# Altium schematic symbol library Capacitor - Aluminium.SchLib: 294 symbols (part 2 of 5)
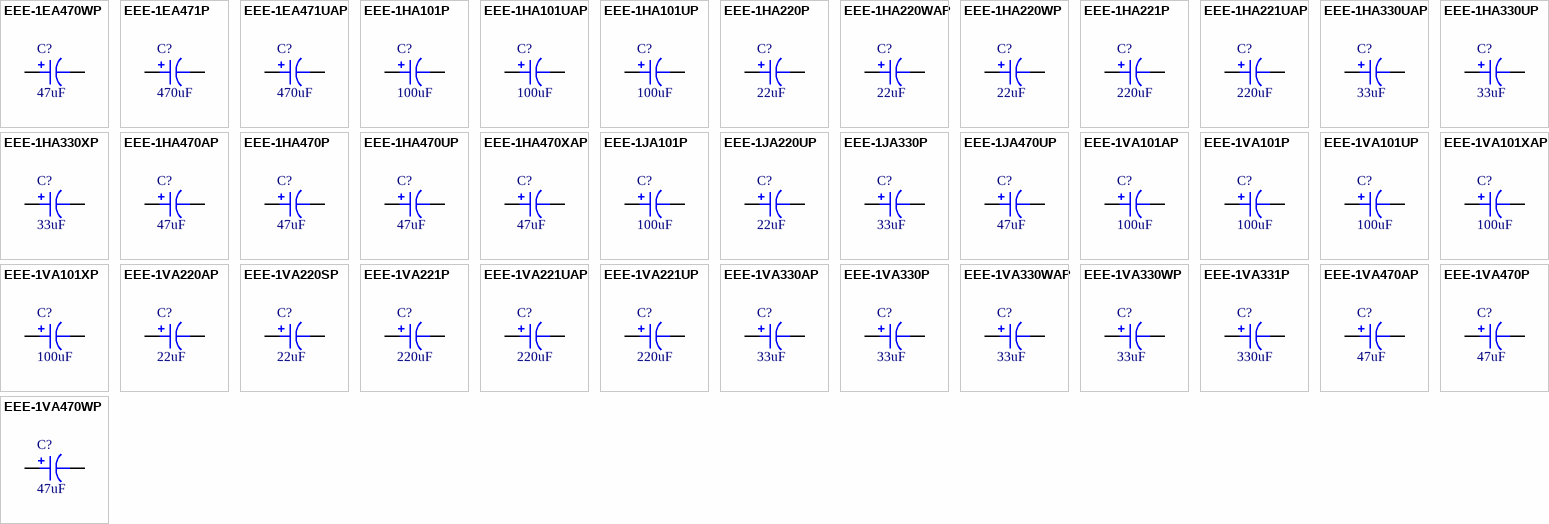
[diagram p8: symbols EEE-1EA470WP to EEE-1VA470WP]

## EEE-1VA101XAP
designator C?, comment 100uF
CAP ALUM 100UF 20% 35V SMD; Part Number: EEE-1VA101XAP; Manufacturer: Panasonic Electronic Components; TemperatureRange: -40C ~ 85C; Type: High Temperature Reflow; Ripple Current: 132mA; Lifetime @ Temp: 2000 Hrs @ 85C; Value: 100uF; PartId: 7256; Supplier 1: Digi-Key; Supplier Part Number 1: PCE4633TR-ND; ComponentLink1Description: Datasheet; ComponentLink1URL: http://media.digikey.com/pdf/Data%20Sheets/Panasonic%20Electronic%20Components/S_Series_Type_V.pdf; ComponentLink2Description: Digi-Key listing; ComponentLink2URL: http://digikey.com/product-detail/en/EEE-1VA101XAP/PCE4633TR-ND/1717799; Tolerance: 20%; Voltage: 35V; Price: 0.1968; Device Package: Radial, Can - SMD; Impedance: -
footprint CAP ALUM 6.6MM
pins: 1, 2

## EEE-1VA101XP
designator C?, comment 100uF
CAP ALUM 100UF 20% 35V SMD; Part Number: EEE-1VA101XP; Manufacturer: Panasonic Electronic Components; TemperatureRange: -40C ~ 85C; Type: Automotive; Ripple Current: 132mA; Lifetime @ Temp: 2000 Hrs @ 85C; Value: 100uF; PartId: 7247; Supplier 1: Digi-Key; Supplier Part Number 1: PCE3951TR-ND; ComponentLink1Description: Datasheet; ComponentLink1URL: http://media.digikey.com/pdf/Data%20Sheets/Panasonic%20Electronic%20Components/S_Series_Type_V.pdf; ComponentLink2Description: Digi-Key listing; ComponentLink2URL: http://digikey.com/product-detail/en/EEE-1VA101XP/PCE3951TR-ND/766117; Tolerance: 20%; Voltage: 35V; Price: 0.1724; Device Package: Radial, Can - SMD; Impedance: -
footprint CAP ALUM 6.6MM
pins: 1, 2

## EEE-1VA220AP
designator C?, comment 22uF
CAP ALUM 22UF 20% 35V SMD; Part Number: EEE-1VA220AP; Manufacturer: Panasonic Electronic Components; TemperatureRange: -40C ~ 85C; Type: High Temperature Reflow; Ripple Current: 60mA; Lifetime @ Temp: 2000 Hrs @ 85C; Value: 22uF; PartId: 7218; Supplier 1: Digi-Key; Supplier Part Number 1: PCE4634TR-ND; ComponentLink1Description: Datasheet; ComponentLink1URL: http://media.digikey.com/pdf/Data%20Sheets/Panasonic%20Electronic%20Components/S_Series_Type_V.pdf; ComponentLink2Description: Digi-Key listing; ComponentLink2URL: http://digikey.com/product-detail/en/EEE-1VA220AP/PCE4634TR-ND/1717800; Tolerance: 20%; Voltage: 35V; Price: 0.1368; Device Package: Radial, Can - SMD; Impedance: -
footprint CAP ALUM 6.6MM
pins: 1, 2

## EEE-1VA220SP
designator C?, comment 22uF
CAP ALUM 22UF 20% 35V SMD; Part Number: EEE-1VA220SP; Manufacturer: Panasonic Electronic Components; TemperatureRange: -40C ~ 85C; Type: Automotive; Ripple Current: 60mA; Lifetime @ Temp: 2000 Hrs @ 85C; Value: 22uF; PartId: 7211; Supplier 1: Digi-Key; Supplier Part Number 1: PCE3952TR-ND; ComponentLink1Description: Datasheet; ComponentLink1URL: http://media.digikey.com/pdf/Data%20Sheets/Panasonic%20Electronic%20Components/S_Series_Type_V.pdf; ComponentLink2Description: Digi-Key listing; ComponentLink2URL: http://digikey.com/product-detail/en/EEE-1VA220SP/PCE3952TR-ND/761837; Tolerance: 20%; Voltage: 35V; Price: 0.1202; Device Package: Radial, Can - SMD; Impedance: -
footprint CAP ALUM 6.6MM
pins: 1, 2

## EEE-1VA221P
designator C?, comment 220uF
CAP ALUM 220UF 20% 35V SMD; Part Number: EEE-1VA221P; Manufacturer: Panasonic Electronic Components; TemperatureRange: -40C ~ 85C; Type: Automotive; Ripple Current: 310mA; Lifetime @ Temp: 2000 Hrs @ 85C; Value: 220uF; PartId: 7384; Supplier 1: Digi-Key; Supplier Part Number 1: PCE3954TR-ND; ComponentLink1Description: Datasheet; ComponentLink1URL: http://media.digikey.com/pdf/Data%20Sheets/Panasonic%20Electronic%20Components/S_Series_Type_V.pdf; ComponentLink2Description: Digi-Key listing; ComponentLink2URL: http://digikey.com/product-detail/en/EEE-1VA221P/PCE3954TR-ND/766119; Tolerance: 20%; Voltage: 35V; Price: 0.2631; Device Package: Radial, Can - SMD; Impedance: -
footprint CAP ALUM 10.3MM
pins: 1, 2

## EEE-1VA221UAP
designator C?, comment 220uF
CAP ALUM 220UF 20% 35V SMD; Part Number: EEE-1VA221UAP; Manufacturer: Panasonic Electronic Components; TemperatureRange: -40C ~ 85C; Type: High Temperature Reflow; Ripple Current: 200mA; Lifetime @ Temp: 1000 Hrs @ 85C; Value: 220uF; PartId: 7354; Supplier 1: Digi-Key; Supplier Part Number 1: PCE4637TR-ND; ComponentLink1Description: Datasheet; ComponentLink1URL: http://media.digikey.com/pdf/Data%20Sheets/Panasonic%20Electronic%20Components/S_Series_Type_V.pdf; ComponentLink2Description: Digi-Key listing; ComponentLink2URL: http://digikey.com/product-detail/en/EEE-1VA221UAP/PCE4637TR-ND/1717803; Tolerance: 20%; Voltage: 35V; Price: 0.3313; Device Package: Radial, Can - SMD; Impedance: -
footprint CAP ALUM 8.3MM
pins: 1, 2

## EEE-1VA221UP
designator C?, comment 220uF
CAP ALUM 220UF 20% 35V SMD; Part Number: EEE-1VA221UP; Manufacturer: Panasonic Electronic Components; TemperatureRange: -40C ~ 85C; Type: Automotive; Ripple Current: 200mA; Lifetime @ Temp: 2000 Hrs @ 85C; Value: 220uF; PartId: 7343; Supplier 1: Digi-Key; Supplier Part Number 1: PCE3955TR-ND; ComponentLink1Description: Datasheet; ComponentLink1URL: http://media.digikey.com/pdf/Data%20Sheets/Panasonic%20Electronic%20Components/S_Series_Type_V.pdf; ComponentLink2Description: Digi-Key listing; ComponentLink2URL: http://digikey.com/product-detail/en/EEE-1VA221UP/PCE3955TR-ND/766120; Tolerance: 20%; Voltage: 35V; Price: 0.2912; Device Package: Radial, Can - SMD; Impedance: -
footprint CAP ALUM 8.3MM
pins: 1, 2

## EEE-1VA330AP
designator C?, comment 33uF
CAP ALUM 33UF 20% 35V SMD; Part Number: EEE-1VA330AP; Manufacturer: Panasonic Electronic Components; TemperatureRange: -40C ~ 85C; Type: High Temperature Reflow; Ripple Current: 130mA; Lifetime @ Temp: 2000 Hrs @ 85C; Value: 33uF; PartId: 7321; Supplier 1: Digi-Key; Supplier Part Number 1: PCE4638TR-ND; ComponentLink1Description: Datasheet; ComponentLink1URL: http://media.digikey.com/pdf/Data%20Sheets/Panasonic%20Electronic%20Components/S_Series_Type_V.pdf; ComponentLink2Description: Digi-Key listing; ComponentLink2URL: http://digikey.com/product-detail/en/EEE-1VA330AP/PCE4638TR-ND/1717804; Tolerance: 20%; Voltage: 35V; Price: 0.2002; Device Package: Radial, Can - SMD; Impedance: -
footprint CAP ALUM 8.3MM
pins: 1, 2

## EEE-1VA330P
designator C?, comment 33uF
CAP ALUM 33UF 20% 35V SMD; Part Number: EEE-1VA330P; Manufacturer: Panasonic Electronic Components; TemperatureRange: -40C ~ 85C; Type: Automotive; Ripple Current: 130mA; Lifetime @ Temp: 2000 Hrs @ 85C; Value: 33uF; PartId: 7315; Supplier 1: Digi-Key; Supplier Part Number 1: PCE3956TR-ND; ComponentLink1Description: Datasheet; ComponentLink1URL: http://media.digikey.com/pdf/Data%20Sheets/Panasonic%20Electronic%20Components/S_Series_Type_V.pdf; ComponentLink2Description: Digi-Key listing; ComponentLink2URL: http://digikey.com/product-detail/en/EEE-1VA330P/PCE3956TR-ND/766121; Tolerance: 20%; Voltage: 35V; Price: 0.1761; Device Package: Radial, Can - SMD; Impedance: -
footprint CAP ALUM 8.3MM
pins: 1, 2

## EEE-1VA330WAP
designator C?, comment 33uF
CAP ALUM 33UF 20% 35V SMD; Part Number: EEE-1VA330WAP; Manufacturer: Panasonic Electronic Components; TemperatureRange: -40C ~ 85C; Type: High Temperature Reflow; Ripple Current: 60mA; Lifetime @ Temp: 1000 Hrs @ 85C; Value: 33uF; PartId: 7234; Supplier 1: Digi-Key; Supplier Part Number 1: PCE4639TR-ND; ComponentLink1Description: Datasheet; ComponentLink1URL: http://media.digikey.com/pdf/Data%20Sheets/Panasonic%20Electronic%20Components/S_Series_Type_V.pdf; ComponentLink2Description: Digi-Key listing; ComponentLink2URL: http://digikey.com/product-detail/en/EEE-1VA330WAP/PCE4639TR-ND/1717805; Tolerance: 20%; Voltage: 35V; Price: 0.1613; Device Package: Radial, Can - SMD; Impedance: -
footprint CAP ALUM 6.6MM
pins: 1, 2

## EEE-1VA330WP
designator C?, comment 33uF
CAP ALUM 33UF 20% 35V SMD; Part Number: EEE-1VA330WP; Manufacturer: Panasonic Electronic Components; TemperatureRange: -40C ~ 85C; Type: Automotive; Ripple Current: 60mA; Lifetime @ Temp: 1000 Hrs @ 85C; Value: 33uF; PartId: 7224; Supplier 1: Digi-Key; Supplier Part Number 1: PCE3958TR-ND; ComponentLink1Description: Datasheet; ComponentLink1URL: http://media.digikey.com/pdf/Data%20Sheets/Panasonic%20Electronic%20Components/S_Series_Type_V.pdf; ComponentLink2Description: Digi-Key listing; ComponentLink2URL: http://digikey.com/product-detail/en/EEE-1VA330WP/PCE3958TR-ND/766123; Tolerance: 20%; Voltage: 35V; Price: 0.1423; Device Package: Radial, Can - SMD; Impedance: -
footprint CAP ALUM 6.6MM
pins: 1, 2

## EEE-1VA331P
designator C?, comment 330uF
CAP ALUM 330UF 20% 35V SMD; Part Number: EEE-1VA331P; Manufacturer: Panasonic Electronic Components; TemperatureRange: -40C ~ 85C; Type: Automotive; Ripple Current: 350mA; Lifetime @ Temp: 2000 Hrs @ 85C; Value: 330uF; PartId: 7418; Supplier 1: Digi-Key; Supplier Part Number 1: PCE3959TR-ND; ComponentLink1Description: Datasheet; ComponentLink1URL: http://media.digikey.com/pdf/Data%20Sheets/Panasonic%20Electronic%20Components/S_Series_Type_V.pdf; ComponentLink2Description: Digi-Key listing; ComponentLink2URL: http://digikey.com/product-detail/en/EEE-1VA331P/PCE3959TR-ND/766124; Tolerance: 20%; Voltage: 35V; Price: 0.3451; Device Package: Radial, Can - SMD; Impedance: -
footprint CAP ALUM 10.3MM
pins: 1, 2

## EEE-1VA470AP
designator C?, comment 47uF
CAP ALUM 47UF 20% 35V SMD; Part Number: EEE-1VA470AP; Manufacturer: Panasonic Electronic Components; TemperatureRange: -40C ~ 85C; Type: High Temperature Reflow; Ripple Current: 165mA; Lifetime @ Temp: 2000 Hrs @ 85C; Value: 47uF; PartId: 7276; Supplier 1: Digi-Key; Supplier Part Number 1: PCE4641TR-ND; ComponentLink1Description: Datasheet; ComponentLink1URL: http://media.digikey.com/pdf/Data%20Sheets/Panasonic%20Electronic%20Components/S_Series_Type_V.pdf; ComponentLink2Description: Digi-Key listing; ComponentLink2URL: http://digikey.com/product-detail/en/EEE-1VA470AP/PCE4641TR-ND/1717807; Tolerance: 20%; Voltage: 35V; Price: 0.2002; Device Package: Radial, Can - SMD; Impedance: -
footprint CAP ALUM 8.3MM
pins: 1, 2

## EEE-1VA470P
designator C?, comment 47uF
CAP ALUM 47UF 20% 35V SMD; Part Number: EEE-1VA470P; Manufacturer: Panasonic Electronic Components; TemperatureRange: -40C ~ 85C; Type: Automotive; Ripple Current: 165mA; Lifetime @ Temp: 2000 Hrs @ 85C; Value: 47uF; PartId: 7308; Supplier 1: Digi-Key; Supplier Part Number 1: PCE3960TR-ND; ComponentLink1Description: Datasheet; ComponentLink1URL: http://media.digikey.com/pdf/Data%20Sheets/Panasonic%20Electronic%20Components/S_Series_Type_V.pdf; ComponentLink2Description: Digi-Key listing; ComponentLink2URL: http://digikey.com/product-detail/en/EEE-1VA470P/PCE3960TR-ND/766125; Tolerance: 20%; Voltage: 35V; Price: 0.1761; Device Package: Radial, Can - SMD; Impedance: -
footprint CAP ALUM 8.3MM
pins: 1, 2

## EEE-1VA470WP
designator C?, comment 47uF
CAP ALUM 47UF 20% 35V SMD; Part Number: EEE-1VA470WP; Manufacturer: Panasonic Electronic Components; TemperatureRange: -40C ~ 85C; Type: Automotive; Ripple Current: 70mA; Lifetime @ Temp: 1000 Hrs @ 85C; Value: 47uF; PartId: 7223; Supplier 1: Digi-Key; Supplier Part Number 1: PCE3961TR-ND; ComponentLink1Description: Datasheet; ComponentLink1URL: http://media.digikey.com/pdf/Data%20Sheets/Panasonic%20Electronic%20Components/S_Series_Type_V.pdf; ComponentLink2Description: Digi-Key listing; ComponentLink2URL: http://digikey.com/product-detail/en/EEE-1VA470WP/PCE3961TR-ND/766126; Tolerance: 20%; Voltage: 35V; Price: 0.1423; Device Package: Radial, Can - SMD; Impedance: -
footprint CAP ALUM 6.6MM
pins: 1, 2

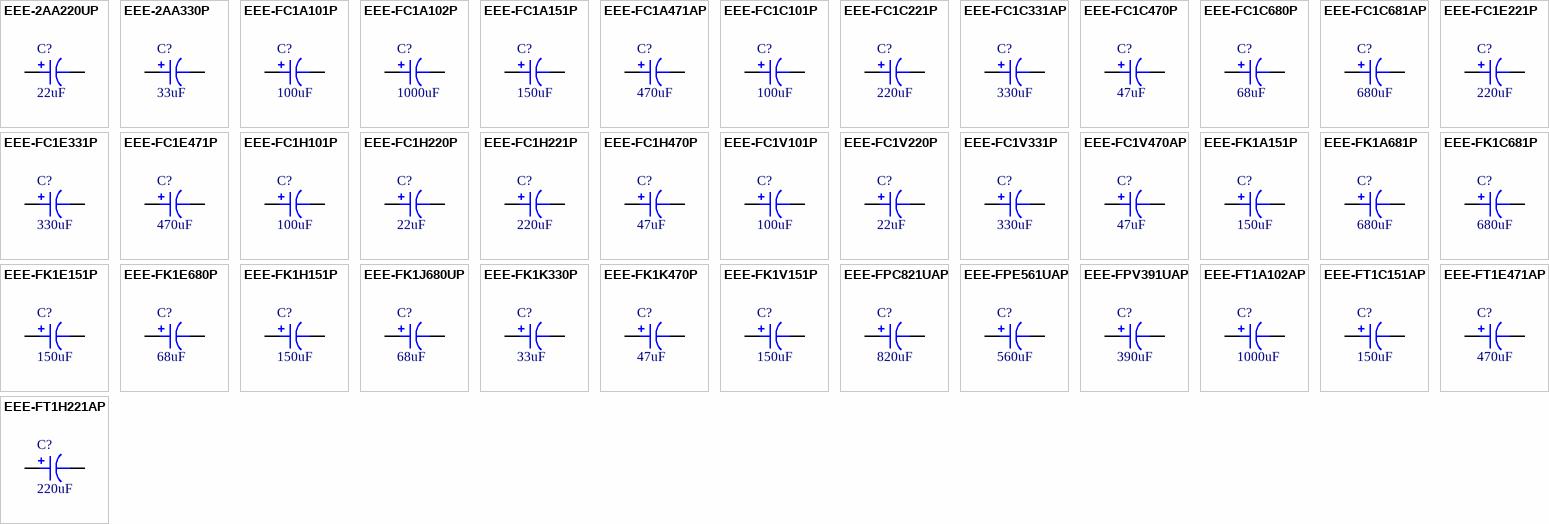
[diagram p2: symbols EEE-2AA220UP to EEE-FT1H221AP]

## EEE-2AA220UP
designator C?, comment 22uF
CAP ALUM 22UF 20% 100V SMD; Part Number: EEE-2AA220UP; Manufacturer: Panasonic Electronic Components; TemperatureRange: -40C ~ 85C; Type: Automotive; Ripple Current: 55mA; Lifetime @ Temp: 2000 Hrs @ 85C; Value: 22uF; PartId: 7351; Supplier 1: Digi-Key; Supplier Part Number 1: PCE3968TR-ND; ComponentLink1Description: Datasheet; ComponentLink1URL: http://media.digikey.com/pdf/Data%20Sheets/Panasonic%20Electronic%20Components/S_Series_Type_V.pdf; ComponentLink2Description: Digi-Key listing; ComponentLink2URL: http://digikey.com/product-detail/en/EEE-2AA220UP/PCE3968TR-ND/766132; Tolerance: 20%; Voltage: 100V; Price: 0.3286; Device Package: Radial, Can - SMD; Impedance: -
footprint CAP ALUM 8.3MM
pins: 1, 2

## EEE-2AA330P
designator C?, comment 33uF
CAP ALUM 33UF 20% 100V SMD; Part Number: EEE-2AA330P; Manufacturer: Panasonic Electronic Components; TemperatureRange: -40C ~ 85C; Type: Automotive; Ripple Current: 90mA; Lifetime @ Temp: 2000 Hrs @ 85C; Value: 33uF; PartId: 7392; Supplier 1: Digi-Key; Supplier Part Number 1: PCE3969TR-ND; ComponentLink1Description: Datasheet; ComponentLink1URL: http://media.digikey.com/pdf/Data%20Sheets/Panasonic%20Electronic%20Components/S_Series_Type_V.pdf; ComponentLink2Description: Digi-Key listing; ComponentLink2URL: http://digikey.com/product-detail/en/EEE-2AA330P/PCE3969TR-ND/766133; Tolerance: 20%; Voltage: 100V; Price: 0.2889; Device Package: Radial, Can - SMD; Impedance: -
footprint CAP ALUM 10.3MM
pins: 1, 2

## EEE-FC1A101P
designator C?, comment 100uF
CAP ALUM 100UF 20% 10V SMD; Part Number: EEE-FC1A101P; Manufacturer: Panasonic Electronic Components; TemperatureRange: -40C ~ 105C; Type: AEC-Q200; Ripple Current: 172.5mA; Impedance: 400 mOhm; Lifetime @ Temp: 1000 Hrs @ 105C; Value: 100uF; PartId: 7293; Supplier 1: Digi-Key; Supplier Part Number 1: PCE3989TR-ND; ComponentLink1Description: Datasheet; ComponentLink1URL: http://industrial.panasonic.com/www-cgi/jvcr13pz.cgi?E+PZ+3+ABA0005+EEEFC1A101P+7+WW; ComponentLink2Description: Digi-Key listing; ComponentLink2URL: http://digikey.com/product-detail/en/EEE-FC1A101P/PCE3989TR-ND/817398; Tolerance: 20%; Voltage: 10V; Price: 0.2448; Device Package: Radial, Can - SMD
footprint CAP ALUM 8.3MM
pins: 1, 2

## EEE-FC1A102P
designator C?, comment 1000uF
CAP ALUM 1000UF 20% 10V SMD; Part Number: EEE-FC1A102P; Manufacturer: Panasonic Electronic Components; TemperatureRange: -40C ~ 105C; Type: AEC-Q200; Ripple Current: 502.5mA; Impedance: 150 mOhm; Lifetime @ Temp: 1000 Hrs @ 105C; Value: 1000uF; PartId: 7443; Supplier 1: Digi-Key; Supplier Part Number 1: PCE3990TR-ND; ComponentLink1Description: Datasheet; ComponentLink1URL: http://industrial.panasonic.com/www-cgi/jvcr13pz.cgi?E+PZ+3+ABA0005+EEEFC1A102P+7+WW; ComponentLink2Description: Digi-Key listing; ComponentLink2URL: http://digikey.com/product-detail/en/EEE-FC1A102P/PCE3990TR-ND/817399; Tolerance: 20%; Voltage: 10V; Price: 0.4156; Device Package: Radial, Can - SMD
footprint CAP ALUM 10.3MM
pins: 1, 2

## EEE-FC1A151P
designator C?, comment 150uF
CAP ALUM 150UF 20% 10V SMD; Part Number: EEE-FC1A151P; Manufacturer: Panasonic Electronic Components; TemperatureRange: -40C ~ 105C; Type: AEC-Q200; Ripple Current: 172.5mA; Impedance: 400 mOhm; Lifetime @ Temp: 1000 Hrs @ 105C; Value: 150uF; PartId: 7326; Supplier 1: Digi-Key; Supplier Part Number 1: PCE3991TR-ND; ComponentLink1Description: Datasheet; ComponentLink1URL: http://industrial.panasonic.com/www-cgi/jvcr13pz.cgi?E+PZ+3+ABA0005+EEEFC1A151P+7+WW; ComponentLink2Description: Digi-Key listing; ComponentLink2URL: http://digikey.com/product-detail/en/EEE-FC1A151P/PCE3991TR-ND/817400; Tolerance: 20%; Voltage: 10V; Price: 0.2448; Device Package: Radial, Can - SMD
footprint CAP ALUM 8.3MM
pins: 1, 2

## EEE-FC1A471AP
designator C?, comment 470uF
CAP ALUM 470UF 20% 10V SMD; Part Number: EEE-FC1A471AP; Manufacturer: Panasonic Electronic Components; TemperatureRange: -40C ~ 105C; Type: AEC-Q200; Ripple Current: 502.5mA; Impedance: 150 mOhm; Lifetime @ Temp: 1000 Hrs @ 105C; Value: 470uF; PartId: 7451; Supplier 1: Digi-Key; Supplier Part Number 1: PCE4341TR-ND; ComponentLink1Description: Datasheet; ComponentLink1URL: http://industrial.panasonic.com/www-cgi/jvcr13pz.cgi?E+PZ+3+ABA0118+EEEFC1A471AP+7+WW; ComponentLink2Description: Digi-Key listing; ComponentLink2URL: http://digikey.com/product-detail/en/EEE-FC1A471AP/PCE4341TR-ND/1141900; Tolerance: 20%; Voltage: 10V; Price: 0.4723; Device Package: Radial, Can - SMD
footprint CAP ALUM 10.3MM
pins: 1, 2

## EEE-FC1C101P
designator C?, comment 100uF
CAP ALUM 100UF 20% 16V SMD; Part Number: EEE-FC1C101P; Manufacturer: Panasonic Electronic Components; TemperatureRange: -40C ~ 105C; Type: AEC-Q200; Ripple Current: 172.5mA; Impedance: 400 mOhm; Lifetime @ Temp: 1000 Hrs @ 105C; Value: 100uF; PartId: 7294; Supplier 1: Digi-Key; Supplier Part Number 1: PCE3996TR-ND; ComponentLink1Description: Datasheet; ComponentLink1URL: http://industrial.panasonic.com/www-cgi/jvcr13pz.cgi?E+PZ+3+ABA0005+EEEFC1C101P+7+WW; ComponentLink2Description: Digi-Key listing; ComponentLink2URL: http://digikey.com/product-detail/en/EEE-FC1C101P/PCE3996TR-ND/817405; Tolerance: 20%; Voltage: 16V; Price: 0.2448; Device Package: Radial, Can - SMD
footprint CAP ALUM 8.3MM
pins: 1, 2

## EEE-FC1C221P
designator C?, comment 220uF
CAP ALUM 220UF 20% 16V SMD; Part Number: EEE-FC1C221P; Manufacturer: Panasonic Electronic Components; TemperatureRange: -40C ~ 105C; Type: AEC-Q200; Ripple Current: 502.5mA; Impedance: 150 mOhm; Lifetime @ Temp: 1000 Hrs @ 105C; Value: 220uF; PartId: 7444; Supplier 1: Digi-Key; Supplier Part Number 1: PCE3998TR-ND; ComponentLink1Description: Datasheet; ComponentLink1URL: http://industrial.panasonic.com/www-cgi/jvcr13pz.cgi?E+PZ+3+ABA0005+EEEFC1C221P+7+WW; ComponentLink2Description: Digi-Key listing; ComponentLink2URL: http://digikey.com/product-detail/en/EEE-FC1C221P/PCE3998TR-ND/817407; Tolerance: 20%; Voltage: 16V; Price: 0.4239; Device Package: Radial, Can - SMD
footprint CAP ALUM 10.3MM
pins: 1, 2

## EEE-FC1C331AP
designator C?, comment 330uF
CAP ALUM 330UF 20% 16V SMD; Part Number: EEE-FC1C331AP; Manufacturer: Panasonic Electronic Components; TemperatureRange: -40C ~ 105C; Type: AEC-Q200; Ripple Current: 502.5mA; Impedance: 150 mOhm; Lifetime @ Temp: 1000 Hrs @ 105C; Value: 330uF; PartId: 7450; Supplier 1: Digi-Key; Supplier Part Number 1: PCE4349TR-ND; ComponentLink1Description: Datasheet; ComponentLink1URL: http://industrial.panasonic.com/www-cgi/jvcr13pz.cgi?E+PZ+3+ABA0118+EEEFC1C331AP+7+WW; ComponentLink2Description: Digi-Key listing; ComponentLink2URL: http://digikey.com/product-detail/en/EEE-FC1C331AP/PCE4349TR-ND/1141908; Tolerance: 20%; Voltage: 16V; Price: 0.4723; Device Package: Radial, Can - SMD
footprint CAP ALUM 10.3MM
pins: 1, 2

## EEE-FC1C470P
designator C?, comment 47uF
CAP ALUM 47UF 20% 16V SMD; Part Number: EEE-FC1C470P; Manufacturer: Panasonic Electronic Components; TemperatureRange: -40C ~ 105C; Type: AEC-Q200; Ripple Current: 105mA; Impedance: 1 Ohm; Lifetime @ Temp: 1000 Hrs @ 105C; Value: 47uF; PartId: 7240; Supplier 1: Digi-Key; Supplier Part Number 1: PCE4000TR-ND; ComponentLink1Description: Datasheet; ComponentLink1URL: http://industrial.panasonic.com/www-cgi/jvcr13pz.cgi?E+PZ+3+ABA0005+EEEFC1C470P+7+WW; ComponentLink2Description: Digi-Key listing; ComponentLink2URL: http://digikey.com/product-detail/en/EEE-FC1C470P/PCE4000TR-ND/817409; Tolerance: 20%; Voltage: 16V; Price: 0.1673; Device Package: Radial, Can - SMD
footprint CAP ALUM 6.6MM
pins: 1, 2

## EEE-FC1C680P
designator C?, comment 68uF
CAP ALUM 68UF 20% 16V SMD; Part Number: EEE-FC1C680P; Manufacturer: Panasonic Electronic Components; TemperatureRange: -40C ~ 105C; Type: AEC-Q200; Ripple Current: 172.5mA; Impedance: 400 mOhm; Lifetime @ Temp: 1000 Hrs @ 105C; Value: 68uF; PartId: 7295; Supplier 1: Digi-Key; Supplier Part Number 1: PCE4002TR-ND; ComponentLink1Description: Datasheet; ComponentLink1URL: http://industrial.panasonic.com/www-cgi/jvcr13pz.cgi?E+PZ+3+ABA0005+EEEFC1C680P+7+WW; ComponentLink2Description: Digi-Key listing; ComponentLink2URL: http://digikey.com/product-detail/en/EEE-FC1C680P/PCE4002TR-ND/817411; Tolerance: 20%; Voltage: 16V; Price: 0.2448; Device Package: Radial, Can - SMD
footprint CAP ALUM 8.3MM
pins: 1, 2

## EEE-FC1C681AP
designator C?, comment 680uF
CAP ALUM 680UF 20% 16V SMD; Part Number: EEE-FC1C681AP; Manufacturer: Panasonic Electronic Components; TemperatureRange: -40C ~ 105C; Type: AEC-Q200; Ripple Current: 502.5mA; Impedance: 150 mOhm; Lifetime @ Temp: 1000 Hrs @ 105C; Value: 680uF; PartId: 7454; Supplier 1: Digi-Key; Supplier Part Number 1: PCE4351TR-ND; ComponentLink1Description: Datasheet; ComponentLink1URL: http://industrial.panasonic.com/www-cgi/jvcr13pz.cgi?E+PZ+3+ABA0118+EEEFC1C681AP+7+WW; ComponentLink2Description: Digi-Key listing; ComponentLink2URL: http://digikey.com/product-detail/en/EEE-FC1C681AP/PCE4351TR-ND/1141910; Tolerance: 20%; Voltage: 16V; Price: 0.4812; Device Package: Radial, Can - SMD
footprint CAP ALUM 10.3MM
pins: 1, 2

## EEE-FC1E221P
designator C?, comment 220uF
CAP ALUM 220UF 20% 25V SMD; Part Number: EEE-FC1E221P; Manufacturer: Panasonic Electronic Components; TemperatureRange: -40C ~ 105C; Type: AEC-Q200; Ripple Current: 502.5mA; Impedance: 150 mOhm; Lifetime @ Temp: 1000 Hrs @ 105C; Value: 220uF; PartId: 7442; Supplier 1: Digi-Key; Supplier Part Number 1: PCE4005TR-ND; ComponentLink1Description: Datasheet; ComponentLink1URL: http://industrial.panasonic.com/www-cgi/jvcr13pz.cgi?E+PZ+3+ABA0005+EEEFC1E221P+7+WW; ComponentLink2Description: Digi-Key listing; ComponentLink2URL: http://digikey.com/product-detail/en/EEE-FC1E221P/PCE4005TR-ND/817414; Tolerance: 20%; Voltage: 25V; Price: 0.4156; Device Package: Radial, Can - SMD
footprint CAP ALUM 10.3MM
pins: 1, 2

## EEE-FC1E331P
designator C?, comment 330uF
CAP ALUM 330UF 20% 25V SMD; Part Number: EEE-FC1E331P; Manufacturer: Panasonic Electronic Components; TemperatureRange: -40C ~ 105C; Type: AEC-Q200; Ripple Current: 502.5mA; Impedance: 150 mOhm; Lifetime @ Temp: 1000 Hrs @ 105C; Value: 330uF; PartId: 7441; Supplier 1: Digi-Key; Supplier Part Number 1: PCE4007TR-ND; ComponentLink1Description: Datasheet; ComponentLink1URL: http://industrial.panasonic.com/www-cgi/jvcr13pz.cgi?E+PZ+3+ABA0005+EEEFC1E331P+7+WW; ComponentLink2Description: Digi-Key listing; ComponentLink2URL: http://digikey.com/product-detail/en/EEE-FC1E331P/PCE4007TR-ND/817416; Tolerance: 20%; Voltage: 25V; Price: 0.4156; Device Package: Radial, Can - SMD
footprint CAP ALUM 10.3MM
pins: 1, 2

## EEE-FC1E471P
designator C?, comment 470uF
CAP ALUM 470UF 20% 25V SMD; Part Number: EEE-FC1E471P; Manufacturer: Panasonic Electronic Components; TemperatureRange: -40C ~ 105C; Type: AEC-Q200; Ripple Current: 502.5mA; Impedance: 150 mOhm; Lifetime @ Temp: 1000 Hrs @ 105C; Value: 470uF; PartId: 7447; Supplier 1: Digi-Key; Supplier Part Number 1: PCE4009TR-ND; ComponentLink1Description: Datasheet; ComponentLink1URL: http://industrial.panasonic.com/www-cgi/jvcr13pz.cgi?E+PZ+3+ABA0005+EEEFC1E471P+7+WW; ComponentLink2Description: Digi-Key listing; ComponentLink2URL: http://digikey.com/product-detail/en/EEE-FC1E471P/PCE4009TR-ND/817418; Tolerance: 20%; Voltage: 25V; Price: 0.4559; Device Package: Radial, Can - SMD
footprint CAP ALUM 10.3MM
pins: 1, 2

## EEE-FC1H101P
designator C?, comment 100uF
CAP ALUM 100UF 20% 50V SMD; Part Number: EEE-FC1H101P; Manufacturer: Panasonic Electronic Components; TemperatureRange: -40C ~ 105C; Type: AEC-Q200; Ripple Current: 375mA; Impedance: 300 mOhm; Lifetime @ Temp: 1000 Hrs @ 105C; Value: 100uF; PartId: 7438; Supplier 1: Digi-Key; Supplier Part Number 1: PCE4013TR-ND; ComponentLink1Description: Datasheet; ComponentLink1URL: http://industrial.panasonic.com/www-cgi/jvcr13pz.cgi?E+PZ+3+ABA0005+EEEFC1H101P+7+WW; ComponentLink2Description: Digi-Key listing; ComponentLink2URL: http://digikey.com/product-detail/en/EEE-FC1H101P/PCE4013TR-ND/817422; Tolerance: 20%; Voltage: 50V; Price: 0.4156; Device Package: Radial, Can - SMD
footprint CAP ALUM 10.3MM
pins: 1, 2

## EEE-FC1H220P
designator C?, comment 22uF
CAP ALUM 22UF 20% 50V SMD; Part Number: EEE-FC1H220P; Manufacturer: Panasonic Electronic Components; TemperatureRange: -40C ~ 105C; Type: AEC-Q200; Ripple Current: 90mA; Impedance: 700 mOhm; Lifetime @ Temp: 1000 Hrs @ 105C; Value: 22uF; PartId: 7325; Supplier 1: Digi-Key; Supplier Part Number 1: PCE4015TR-ND; ComponentLink1Description: Datasheet; ComponentLink1URL: http://industrial.panasonic.com/www-cgi/jvcr13pz.cgi?E+PZ+3+ABA0005+EEEFC1H220P+7+WW; ComponentLink2Description: Digi-Key listing; ComponentLink2URL: http://digikey.com/product-detail/en/EEE-FC1H220P/PCE4015TR-ND/817424; Tolerance: 20%; Voltage: 50V; Price: 0.2448; Device Package: Radial, Can - SMD
footprint CAP ALUM 8.3MM
pins: 1, 2

## EEE-FC1H221P
designator C?, comment 220uF
CAP ALUM 220UF 20% 50V SMD; Part Number: EEE-FC1H221P; Manufacturer: Panasonic Electronic Components; TemperatureRange: -40C ~ 105C; Type: AEC-Q200; Ripple Current: 375mA; Impedance: 300 mOhm; Lifetime @ Temp: 1000 Hrs @ 105C; Value: 220uF; PartId: 7448; Supplier 1: Digi-Key; Supplier Part Number 1: PCE4016TR-ND; ComponentLink1Description: Datasheet; ComponentLink1URL: http://industrial.panasonic.com/www-cgi/jvcr13pz.cgi?E+PZ+3+ABA0005+EEEFC1H221P+7+WW; ComponentLink2Description: Digi-Key listing; ComponentLink2URL: http://digikey.com/product-detail/en/EEE-FC1H221P/PCE4016TR-ND/817425; Tolerance: 20%; Voltage: 50V; Price: 0.4559; Device Package: Radial, Can - SMD
footprint CAP ALUM 10.3MM
pins: 1, 2

## EEE-FC1H470P
designator C?, comment 47uF
CAP ALUM 47UF 20% 50V SMD; Part Number: EEE-FC1H470P; Manufacturer: Panasonic Electronic Components; TemperatureRange: -40C ~ 105C; Type: AEC-Q200; Ripple Current: 375mA; Impedance: 300 mOhm; Lifetime @ Temp: 1000 Hrs @ 105C; Value: 47uF; PartId: 7440; Supplier 1: Digi-Key; Supplier Part Number 1: PCE4020TR-ND; ComponentLink1Description: Datasheet; ComponentLink1URL: http://industrial.panasonic.com/www-cgi/jvcr13pz.cgi?E+PZ+4+ABA0005+EEEFC1H470P+8+WW; ComponentLink2Description: Digi-Key listing; ComponentLink2URL: http://digikey.com/product-detail/en/EEE-FC1H470P/PCE4020TR-ND/817429; Tolerance: 20%; Voltage: 50V; Price: 0.4156; Device Package: Radial, Can - SMD
footprint CAP ALUM 10.3MM
pins: 1, 2

## EEE-FC1V101P
designator C?, comment 100uF
CAP ALUM 100UF 20% 35V SMD; Part Number: EEE-FC1V101P; Manufacturer: Panasonic Electronic Components; TemperatureRange: -40C ~ 105C; Type: AEC-Q200; Ripple Current: 502.5mA; Impedance: 150 mOhm; Lifetime @ Temp: 1000 Hrs @ 105C; Value: 100uF; PartId: 7439; Supplier 1: Digi-Key; Supplier Part Number 1: PCE4023TR-ND; ComponentLink1Description: Datasheet; ComponentLink1URL: http://industrial.panasonic.com/www-cgi/jvcr13pz.cgi?E+PZ+3+ABA0005+EEEFC1V101P+7+WW; ComponentLink2Description: Digi-Key listing; ComponentLink2URL: http://digikey.com/product-detail/en/EEE-FC1V101P/PCE4023TR-ND/817432; Tolerance: 20%; Voltage: 35V; Price: 0.4156; Device Package: Radial, Can - SMD
footprint CAP ALUM 10.3MM
pins: 1, 2

## EEE-FC1V220P
designator C?, comment 22uF
CAP ALUM 22UF 20% 35V SMD; Part Number: EEE-FC1V220P; Manufacturer: Panasonic Electronic Components; TemperatureRange: -40C ~ 105C; Type: AEC-Q200; Ripple Current: 105mA; Impedance: 1 Ohm; Lifetime @ Temp: 1000 Hrs @ 105C; Value: 22uF; PartId: 7241; Supplier 1: Digi-Key; Supplier Part Number 1: PCE4025TR-ND; ComponentLink1Description: Datasheet; ComponentLink1URL: http://industrial.panasonic.com/www-cgi/jvcr13pz.cgi?E+PZ+3+ABA0005+EEEFC1V220P+7+WW; ComponentLink2Description: Digi-Key listing; ComponentLink2URL: http://digikey.com/product-detail/en/EEE-FC1V220P/PCE4025TR-ND/817434; Tolerance: 20%; Voltage: 35V; Price: 0.1673; Device Package: Radial, Can - SMD
footprint CAP ALUM 6.6MM
pins: 1, 2

## EEE-FC1V331P
designator C?, comment 330uF
CAP ALUM 330UF 20% 35V SMD; Part Number: EEE-FC1V331P; Manufacturer: Panasonic Electronic Components; TemperatureRange: -40C ~ 105C; Type: AEC-Q200; Ripple Current: 502.5mA; Impedance: 150 mOhm; Lifetime @ Temp: 1000 Hrs @ 105C; Value: 330uF; PartId: 7446; Supplier 1: Digi-Key; Supplier Part Number 1: PCE4029TR-ND; ComponentLink1Description: Datasheet; ComponentLink1URL: http://industrial.panasonic.com/www-cgi/jvcr13pz.cgi?E+PZ+3+ABA0005+EEEFC1V331P+7+WW; ComponentLink2Description: Digi-Key listing; ComponentLink2URL: http://digikey.com/product-detail/en/EEE-FC1V331P/PCE4029TR-ND/817438; Tolerance: 20%; Voltage: 35V; Price: 0.4559; Device Package: Radial, Can - SMD
footprint CAP ALUM 10.3MM
pins: 1, 2

## EEE-FC1V470AP
designator C?, comment 47uF
CAP ALUM 47UF 20% 35V SMD; Part Number: EEE-FC1V470AP; Manufacturer: Panasonic Electronic Components; TemperatureRange: -40C ~ 105C; Type: AEC-Q200; Ripple Current: 172.5mA; Impedance: 400 mOhm; Lifetime @ Temp: 1000 Hrs @ 105C; Value: 47uF; PartId: 7340; Supplier 1: Digi-Key; Supplier Part Number 1: PCE4369TR-ND; ComponentLink1Description: Datasheet; ComponentLink1URL: http://industrial.panasonic.com/www-cgi/jvcr13pz.cgi?E+PZ+3+ABA0118+EEEFC1V470AP+7+WW; ComponentLink2Description: Digi-Key listing; ComponentLink2URL: http://digikey.com/product-detail/en/EEE-FC1V470AP/PCE4369TR-ND/1141928; Tolerance: 20%; Voltage: 35V; Price: 0.2731; Device Package: Radial, Can - SMD
footprint CAP ALUM 8.3MM
pins: 1, 2

## EEE-FK1A151P
designator C?, comment 150uF
CAP ALUM 150UF 20% 10V SMD; Part Number: EEE-FK1A151P; Manufacturer: Panasonic Electronic Components; TemperatureRange: -55C ~ 105C; Type: Automotive; Ripple Current: 180mA; Impedance: 360 mOhm; Lifetime @ Temp: 2000 Hrs @ 105C; Value: 150uF; PartId: 7242; Supplier 1: Digi-Key; Supplier Part Number 1: PCE3773TR-ND; ComponentLink1Description: Datasheet; ComponentLink1URL: http://industrial.panasonic.com/www-cgi/jvcr13pz.cgi?E+PZ+4+ABA0120+EEEFK1A151P+8+WW; ComponentLink2Description: Digi-Key listing; ComponentLink2URL: http://digikey.com/product-detail/en/EEE-FK1A151P/PCE3773TR-ND/765943; Tolerance: 20%; Voltage: 10V; Price: 0.1709; Device Package: Radial, Can - SMD
footprint CAP ALUM 6.6MM
pins: 1, 2

## EEE-FK1A681P
designator C?, comment 680uF
CAP ALUM 680UF 20% 10V SMD; Part Number: EEE-FK1A681P; Manufacturer: Panasonic Electronic Components; TemperatureRange: -55C ~ 105C; Type: Automotive; Ripple Current: 450mA; Impedance: 160 mOhm; Lifetime @ Temp: 2000 Hrs @ 105C; Value: 680uF; PartId: 7363; Supplier 1: Digi-Key; Supplier Part Number 1: PCE3781TR-ND; ComponentLink1Description: Datasheet; ComponentLink1URL: http://industrial.panasonic.com/www-cgi/jvcr13pz.cgi?E+PZ+4+ABA0120+EEEFK1A681P+8+WW; ComponentLink2Description: Digi-Key listing; ComponentLink2URL: http://digikey.com/product-detail/en/EEE-FK1A681P/PCE3781TR-ND/765951; Tolerance: 20%; Voltage: 10V; Price: 0.3726; Device Package: Radial, Can - SMD
footprint CAP ALUM 8.3MM
pins: 1, 2

## EEE-FK1C681P
designator C?, comment 680uF
CAP ALUM 680UF 20% 16V SMD; Part Number: EEE-FK1C681P; Manufacturer: Panasonic Electronic Components; TemperatureRange: -55C ~ 105C; Type: Automotive; Ripple Current: 637.5mA; Impedance: 80 mOhm; Lifetime @ Temp: 2000 Hrs @ 105C; Value: 680uF; PartId: 7435; Supplier 1: Digi-Key; Supplier Part Number 1: PCE3794TR-ND; ComponentLink1Description: Datasheet; ComponentLink1URL: http://industrial.panasonic.com/www-cgi/jvcr13pz.cgi?E+PZ+4+ABA0120+EEEFK1C681P+8+WW; ComponentLink2Description: Digi-Key listing; ComponentLink2URL: http://digikey.com/product-detail/en/EEE-FK1C681P/PCE3794TR-ND/765963; Tolerance: 20%; Voltage: 16V; Price: 0.3973; Device Package: Radial, Can - SMD
footprint CAP ALUM 10.3MM
pins: 1, 2

## EEE-FK1E151P
designator C?, comment 150uF
CAP ALUM 150UF 20% 25V SMD; Part Number: EEE-FK1E151P; Manufacturer: Panasonic Electronic Components; TemperatureRange: -55C ~ 105C; Type: Automotive; Ripple Current: 450mA; Impedance: 160 mOhm; Lifetime @ Temp: 2000 Hrs @ 105C; Value: 150uF; PartId: 7366; Supplier 1: Digi-Key; Supplier Part Number 1: PCE3798TR-ND; ComponentLink1Description: Datasheet; ComponentLink1URL: http://industrial.panasonic.com/www-cgi/jvcr13pz.cgi?E+PZ+4+ABA0120+EEEFK1E151P+8+WW; ComponentLink2Description: Digi-Key listing; ComponentLink2URL: http://digikey.com/product-detail/en/EEE-FK1E151P/PCE3798TR-ND/765967; Tolerance: 20%; Voltage: 25V; Price: 0.4053; Device Package: Radial, Can - SMD
footprint CAP ALUM 8.3MM
pins: 1, 2

## EEE-FK1E680P
designator C?, comment 68uF
CAP ALUM 68UF 20% 25V SMD; Part Number: EEE-FK1E680P; Manufacturer: Panasonic Electronic Components; TemperatureRange: -55C ~ 105C; Type: Automotive; Ripple Current: 180mA; Impedance: 360 mOhm; Lifetime @ Temp: 2000 Hrs @ 105C; Value: 68uF; PartId: 7243; Supplier 1: Digi-Key; Supplier Part Number 1: PCE3806TR-ND; ComponentLink1Description: Datasheet; ComponentLink1URL: http://industrial.panasonic.com/www-cgi/jvcr13pz.cgi?E+PZ+4+ABA0120+EEEFK1E680P+8+WW; ComponentLink2Description: Digi-Key listing; ComponentLink2URL: http://digikey.com/product-detail/en/EEE-FK1E680P/PCE3806TR-ND/765975; Tolerance: 20%; Voltage: 25V; Price: 0.1709; Device Package: Radial, Can - SMD
footprint CAP ALUM 6.6MM
pins: 1, 2

## EEE-FK1H151P
designator C?, comment 150uF
CAP ALUM 150UF 20% 50V SMD; Part Number: EEE-FK1H151P; Manufacturer: Panasonic Electronic Components; TemperatureRange: -55C ~ 105C; Type: Automotive; Ripple Current: 502.5mA; Impedance: 180 mOhm; Lifetime @ Temp: 2000 Hrs @ 105C; Value: 150uF; PartId: 7453; Supplier 1: Digi-Key; Supplier Part Number 1: PCE3810TR-ND; ComponentLink1Description: Datasheet; ComponentLink1URL: http://industrial.panasonic.com/www-cgi/jvcr13pz.cgi?E+PZ+4+ABA0120+EEEFK1H151P+8+WW; ComponentLink2Description: Digi-Key listing; ComponentLink2URL: http://digikey.com/product-detail/en/EEE-FK1H151P/PCE3810TR-ND/765979; Tolerance: 20%; Voltage: 50V; Price: 0.4747; Device Package: Radial, Can - SMD
footprint CAP ALUM 10.3MM
pins: 1, 2

## EEE-FK1J680UP
designator C?, comment 68uF
CAP ALUM 68UF 20% 63V SMD; Part Number: EEE-FK1J680UP; Manufacturer: Panasonic Electronic Components; TemperatureRange: -55C ~ 105C; Type: Automotive; Ripple Current: 187.5mA; Impedance: 650 mOhm; Lifetime @ Temp: 2000 Hrs @ 105C; Value: 68uF; PartId: 7361; Supplier 1: Digi-Key; Supplier Part Number 1: PCE4307TR-ND; ComponentLink1Description: Datasheet; ComponentLink1URL: http://industrial.panasonic.com/www-cgi/jvcr13pz.cgi?E+PZ+3+ABA0120+EEEFK1J680UP+7+WW; ComponentLink2Description: Digi-Key listing; ComponentLink2URL: http://digikey.com/product-detail/en/EEE-FK1J680UP/PCE4307TR-ND/949812; Tolerance: 20%; Voltage: 63V; Price: 0.3578; Device Package: Radial, Can - SMD
footprint CAP ALUM 8.3MM
pins: 1, 2

## EEE-FK1K330P
designator C?, comment 33uF
CAP ALUM 33UF 20% 80V SMD; Part Number: EEE-FK1K330P; Manufacturer: Panasonic Electronic Components; TemperatureRange: -55C ~ 105C; Type: Automotive; Ripple Current: 97.5mA; Impedance: 1.3 Ohm; Lifetime @ Temp: 2000 Hrs @ 105C; Value: 33uF; PartId: 7370; Supplier 1: Digi-Key; Supplier Part Number 1: PCE3829TR-ND; ComponentLink1Description: Datasheet; ComponentLink1URL: http://industrial.panasonic.com/www-cgi/jvcr13pz.cgi?E+PZ+3+ABA0120+EEEFK1K330P+7+WW; ComponentLink2Description: Digi-Key listing; ComponentLink2URL: http://digikey.com/product-detail/en/EEE-FK1K330P/PCE3829TR-ND/765998; Tolerance: 20%; Voltage: 80V; Price: 0.4257; Device Package: Radial, Can - SMD
footprint CAP ALUM 8.3MM
pins: 1, 2

## EEE-FK1K470P
designator C?, comment 47uF
CAP ALUM 47UF 20% 80V SMD; Part Number: EEE-FK1K470P; Manufacturer: Panasonic Electronic Components; TemperatureRange: -55C ~ 105C; Type: Automotive; Ripple Current: 150mA; Impedance: 700 mOhm; Lifetime @ Temp: 2000 Hrs @ 105C; Value: 47uF; PartId: 7452; Supplier 1: Digi-Key; Supplier Part Number 1: PCE3831TR-ND; ComponentLink1Description: Datasheet; ComponentLink1URL: http://industrial.panasonic.com/www-cgi/jvcr13pz.cgi?E+PZ+3+ABA0120+EEEFK1K470P+7+WW; ComponentLink2Description: Digi-Key listing; ComponentLink2URL: http://digikey.com/product-detail/en/EEE-FK1K470P/PCE3831TR-ND/766000; Tolerance: 20%; Voltage: 80V; Price: 0.4725; Device Package: Radial, Can - SMD
footprint CAP ALUM 10.3MM
pins: 1, 2

## EEE-FK1V151P
designator C?, comment 150uF
CAP ALUM 150UF 20% 35V SMD; Part Number: EEE-FK1V151P; Manufacturer: Panasonic Electronic Components; TemperatureRange: -55C ~ 105C; Type: Automotive; Ripple Current: 450mA; Impedance: 160 mOhm; Lifetime @ Temp: 2000 Hrs @ 105C; Value: 150uF; PartId: 7360; Supplier 1: Digi-Key; Supplier Part Number 1: PCE3837TR-ND; ComponentLink1Description: Datasheet; ComponentLink1URL: http://industrial.panasonic.com/www-cgi/jvcr13pz.cgi?E+PZ+4+ABA0120+EEEFK1V151P+8+WW; ComponentLink2Description: Digi-Key listing; ComponentLink2URL: http://digikey.com/product-detail/en/EEE-FK1V151P/PCE3837TR-ND/766005; Tolerance: 20%; Voltage: 35V; Price: 0.3569; Device Package: Radial, Can - SMD
footprint CAP ALUM 8.3MM
pins: 1, 2

## EEE-FPC821UAP
designator C?, comment 820uF
CAP ALUM 820UF 20% 16V SMD; Part Number: EEE-FPC821UAP; Manufacturer: Panasonic Electronic Components; TemperatureRange: -55C ~ 105C; Type: Automotive; Ripple Current: 637.5mA; Lifetime @ Temp: 2000 Hrs @ 105C; Value: 820uF; PartId: 7457; Supplier 1: Digi-Key; Supplier Part Number 1: PCE4438TR-ND; ComponentLink1Description: Datasheet; ComponentLink1URL: http://industrial.panasonic.com/www-cgi/jvcr13pz.cgi?E+PZ+3+ABA0114+EEEFPC821UAP+7+WW; ComponentLink2Description: Digi-Key listing; ComponentLink2URL: http://digikey.com/product-detail/en/EEE-FPC821UAP/PCE4438TR-ND/1245937; Tolerance: 20%; Voltage: 16V; Price: 0.5089; Device Package: Radial, Can - SMD; Impedance: -
footprint CAP ALUM 10.3MM
pins: 1, 2

## EEE-FPE561UAP
designator C?, comment 560uF
CAP ALUM 560UF 20% 25V SMD; Part Number: EEE-FPE561UAP; Manufacturer: Panasonic Electronic Components; TemperatureRange: -55C ~ 105C; Type: Automotive; Ripple Current: 637.5mA; Lifetime @ Temp: 2000 Hrs @ 105C; Value: 560uF; PartId: 7468; Supplier 1: Digi-Key; Supplier Part Number 1: PCE4441TR-ND; ComponentLink1Description: Datasheet; ComponentLink1URL: http://industrial.panasonic.com/www-cgi/jvcr13pz.cgi?E+PZ+3+ABA0114+EEEFPE561UAP+7+WW; ComponentLink2Description: Digi-Key listing; ComponentLink2URL: http://digikey.com/product-detail/en/EEE-FPE561UAP/PCE4441TR-ND/1245940; Tolerance: 20%; Voltage: 25V; Price: 0.6077; Device Package: Radial, Can - SMD; Impedance: -
footprint CAP ALUM 10.3MM
pins: 1, 2

## EEE-FPV391UAP
designator C?, comment 390uF
CAP ALUM 390UF 20% 35V SMD; Part Number: EEE-FPV391UAP; Manufacturer: Panasonic Electronic Components; TemperatureRange: -55C ~ 105C; Type: Automotive; Ripple Current: 552.5mA; Lifetime @ Temp: 2000 Hrs @ 105C; Value: 390uF; PartId: 7467; Supplier 1: Digi-Key; Supplier Part Number 1: PCE4446TR-ND; ComponentLink1Description: Datasheet; ComponentLink1URL: http://industrial.panasonic.com/www-cgi/jvcr13pz.cgi?E+PZ+3+ABA0114+EEEFPV391UAP+7+WW; ComponentLink2Description: Digi-Key listing; ComponentLink2URL: http://digikey.com/product-detail/en/EEE-FPV391UAP/PCE4446TR-ND/1245945; Tolerance: 20%; Voltage: 35V; Price: 0.6077; Device Package: Radial, Can - SMD; Impedance: -
footprint CAP ALUM 10.3MM
pins: 1, 2

## EEE-FT1A102AP
designator C?, comment 1000uF
CAP ALUM 1000UF 20% 10V SMD; Part Number: EEE-FT1A102AP; Manufacturer: Panasonic Electronic Components; TemperatureRange: -55C ~ 105C; Type: Automotive; Ripple Current: 595mA; Lifetime @ Temp: 2000 Hrs @ 105C; Value: 1000uF; PartId: 7378; Supplier 1: Digi-Key; Supplier Part Number 1: P15081TR-ND; ComponentLink1Description: Datasheet; ComponentLink1URL: http://industrial.panasonic.com/lecs/www-data/pdf/ABA0000/ABA0000CE135.pdf; ComponentLink2Description: Digi-Key listing; ComponentLink2URL: http://digikey.com/product-detail/en/EEE-FT1A102AP/P15081TR-ND/2796898; Tolerance: 20%; Voltage: 10V; Price: 0.5172; Device Package: Radial, Can - SMD; Impedance: -
footprint CAP ALUM 8.3MM
pins: 1, 2

## EEE-FT1C151AP
designator C?, comment 150uF
CAP ALUM 150UF 20% 16V SMD; Part Number: EEE-FT1C151AP; Manufacturer: Panasonic Electronic Components; TemperatureRange: -55C ~ 105C; Type: Automotive; Ripple Current: 195mA; Lifetime @ Temp: 2000 Hrs @ 105C; Value: 150uF; PartId: 7263; Supplier 1: Digi-Key; Supplier Part Number 1: P15088TR-ND; ComponentLink1Description: Datasheet; ComponentLink1URL: http://industrial.panasonic.com/lecs/www-data/pdf/ABA0000/ABA0000CE135.pdf; ComponentLink2Description: Digi-Key listing; ComponentLink2URL: http://digikey.com/product-detail/en/EEE-FT1C151AP/P15088TR-ND/2796903; Tolerance: 20%; Voltage: 16V; Price: 0.2455; Device Package: Radial, Can - SMD; Impedance: -
footprint CAP ALUM 6.6MM
pins: 1, 2

## EEE-FT1E471AP
designator C?, comment 470uF
CAP ALUM 470UF 20% 25V SMD; Part Number: EEE-FT1E471AP; Manufacturer: Panasonic Electronic Components; TemperatureRange: -55C ~ 105C; Type: Automotive; Ripple Current: 552.5mA; Lifetime @ Temp: 2000 Hrs @ 105C; Value: 470uF; PartId: 7377; Supplier 1: Digi-Key; Supplier Part Number 1: PCE5010TR-ND; ComponentLink1Description: Datasheet; ComponentLink1URL: http://industrial.panasonic.com/lecs/www-data/pdf/ABA0000/ABA0000CE135.pdf; ComponentLink2Description: Digi-Key listing; ComponentLink2URL: http://digikey.com/product-detail/en/EEE-FT1E471AP/PCE5010TR-ND/2652041; Tolerance: 20%; Voltage: 25V; Price: 0.5172; Device Package: Radial, Can - SMD; Impedance: -
footprint CAP ALUM 8.3MM
pins: 1, 2

## EEE-FT1H221AP
designator C?, comment 220uF
CAP ALUM 220UF 20% 50V SMD; Part Number: EEE-FT1H221AP; Manufacturer: Panasonic Electronic Components; TemperatureRange: -55C ~ 105C; Type: Automotive; Ripple Current: 435.5mA; Lifetime @ Temp: 2000 Hrs @ 105C; Value: 220uF; PartId: 7374; Supplier 1: Digi-Key; Supplier Part Number 1: PCE5025TR-ND; ComponentLink1Description: Datasheet; ComponentLink1URL: http://industrial.panasonic.com/lecs/www-data/pdf/ABA0000/ABA0000CE135.pdf; ComponentLink2Description: Digi-Key listing; ComponentLink2URL: http://digikey.com/product-detail/en/EEE-FT1H221AP/PCE5025TR-ND/2652056; Tolerance: 20%; Voltage: 50V; Price: 0.5071; Device Package: Radial, Can - SMD; Impedance: -
footprint CAP ALUM 8.3MM
pins: 1, 2

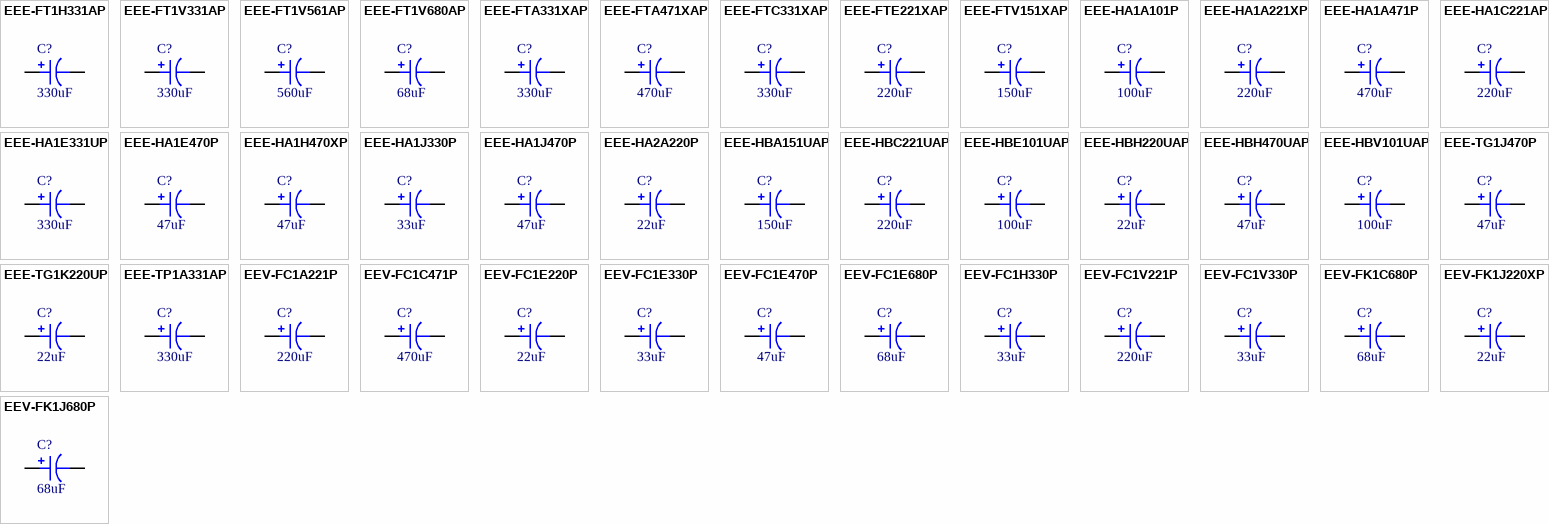
[diagram p3: symbols EEE-FT1H331AP to EEV-FK1J680P]

## EEE-FT1H331AP
designator C?, comment 330uF
CAP ALUM 330UF 20% 50V SMD; Part Number: EEE-FT1H331AP; Manufacturer: Panasonic Electronic Components; TemperatureRange: -55C ~ 105C; Type: Automotive; Ripple Current: 585mA; Lifetime @ Temp: 2000 Hrs @ 105C; Value: 330uF; PartId: 7470; Supplier 1: Digi-Key; Supplier Part Number 1: PCE5026TR-ND; ComponentLink1Description: Datasheet; ComponentLink1URL: http://industrial.panasonic.com/lecs/www-data/pdf/ABA0000/ABA0000CE135.pdf; ComponentLink2Description: Digi-Key listing; ComponentLink2URL: http://digikey.com/product-detail/en/EEE-FT1H331AP/PCE5026TR-ND/2652057; Tolerance: 20%; Voltage: 50V; Price: 0.7046; Device Package: Radial, Can - SMD; Impedance: -
footprint CAP ALUM 10.3MM
pins: 1, 2

## EEE-FT1V331AP
designator C?, comment 330uF
CAP ALUM 330UF 20% 35V SMD; Part Number: EEE-FT1V331AP; Manufacturer: Panasonic Electronic Components; TemperatureRange: -55C ~ 105C; Type: Automotive; Ripple Current: 552.5mA; Lifetime @ Temp: 2000 Hrs @ 105C; Value: 330uF; PartId: 7375; Supplier 1: Digi-Key; Supplier Part Number 1: PCE5018TR-ND; ComponentLink1Description: Datasheet; ComponentLink1URL: http://industrial.panasonic.com/lecs/www-data/pdf/ABA0000/ABA0000CE135.pdf; ComponentLink2Description: Digi-Key listing; ComponentLink2URL: http://digikey.com/product-detail/en/EEE-FT1V331AP/PCE5018TR-ND/2652049; Tolerance: 20%; Voltage: 35V; Price: 0.5071; Device Package: Radial, Can - SMD; Impedance: -
footprint CAP ALUM 8.3MM
pins: 1, 2

## EEE-FT1V561AP
designator C?, comment 560uF
CAP ALUM 560UF 20% 35V SMD; Part Number: EEE-FT1V561AP; Manufacturer: Panasonic Electronic Components; TemperatureRange: -55C ~ 105C; Type: Automotive; Ripple Current: 833mA; Lifetime @ Temp: 2000 Hrs @ 105C; Value: 560uF; PartId: 7471; Supplier 1: Digi-Key; Supplier Part Number 1: PCE5019TR-ND; ComponentLink1Description: Datasheet; ComponentLink1URL: http://industrial.panasonic.com/lecs/www-data/pdf/ABA0000/ABA0000CE135.pdf; ComponentLink2Description: Digi-Key listing; ComponentLink2URL: http://digikey.com/product-detail/en/EEE-FT1V561AP/PCE5019TR-ND/2652050; Tolerance: 20%; Voltage: 35V; Price: 0.7046; Device Package: Radial, Can - SMD; Impedance: -
footprint CAP ALUM 10.3MM
pins: 1, 2

## EEE-FT1V680AP
designator C?, comment 68uF
CAP ALUM 68UF 20% 35V SMD; Part Number: EEE-FT1V680AP; Manufacturer: Panasonic Electronic Components; TemperatureRange: -55C ~ 105C; Type: Automotive; Ripple Current: 195mA; Lifetime @ Temp: 2000 Hrs @ 105C; Value: 68uF; PartId: 7262; Supplier 1: Digi-Key; Supplier Part Number 1: PCE5015TR-ND; ComponentLink1Description: Datasheet; ComponentLink1URL: http://industrial.panasonic.com/lecs/www-data/pdf/ABA0000/ABA0000CE135.pdf; ComponentLink2Description: Digi-Key listing; ComponentLink2URL: http://digikey.com/product-detail/en/EEE-FT1V680AP/PCE5015TR-ND/2652046; Tolerance: 20%; Voltage: 35V; Price: 0.2455; Device Package: Radial, Can - SMD; Impedance: -
footprint CAP ALUM 6.6MM
pins: 1, 2

## EEE-FTA331XAP
designator C?, comment 330uF
CAP ALUM 330UF 20% 10V SMD; Part Number: EEE-FTA331XAP; Manufacturer: Panasonic Electronic Components; TemperatureRange: -55C ~ 105C; Type: Automotive; Ripple Current: 390mA; Lifetime @ Temp: 2000 Hrs @ 105C; Value: 330uF; PartId: 7272; Supplier 1: Digi-Key; Supplier Part Number 1: P15093TR-ND; ComponentLink1Description: Datasheet; ComponentLink1URL: http://industrial.panasonic.com/lecs/www-data/pdf/ABA0000/ABA0000CE135.pdf; ComponentLink2Description: Digi-Key listing; ComponentLink2URL: http://digikey.com/product-detail/en/EEE-FTA331XAP/P15093TR-ND/2796896; Tolerance: 20%; Voltage: 10V; Price: 0.3597; Device Package: Radial, Can - SMD; Impedance: -
footprint CAP ALUM 6.6MM
pins: 1, 2

## EEE-FTA471XAP
designator C?, comment 470uF
CAP ALUM 470UF 20% 10V SMD; Part Number: EEE-FTA471XAP; Manufacturer: Panasonic Electronic Components; TemperatureRange: -55C ~ 105C; Type: Automotive; Ripple Current: 390mA; Lifetime @ Temp: 2000 Hrs @ 105C; Value: 470uF; PartId: 7274; Supplier 1: Digi-Key; Supplier Part Number 1: P15094TR-ND; ComponentLink1Description: Datasheet; ComponentLink1URL: http://industrial.panasonic.com/lecs/www-data/pdf/ABA0000/ABA0000CE135.pdf; ComponentLink2Description: Digi-Key listing; ComponentLink2URL: http://digikey.com/product-detail/en/EEE-FTA471XAP/P15094TR-ND/2796897; Tolerance: 20%; Voltage: 10V; Price: 0.3668; Device Package: Radial, Can - SMD; Impedance: -
footprint CAP ALUM 6.6MM
pins: 1, 2

## EEE-FTC331XAP
designator C?, comment 330uF
CAP ALUM 330UF 20% 16V SMD; Part Number: EEE-FTC331XAP; Manufacturer: Panasonic Electronic Components; TemperatureRange: -55C ~ 105C; Type: Automotive; Ripple Current: 390mA; Lifetime @ Temp: 2000 Hrs @ 105C; Value: 330uF; PartId: 7273; Supplier 1: Digi-Key; Supplier Part Number 1: P15095TR-ND; ComponentLink1Description: Datasheet; ComponentLink1URL: http://industrial.panasonic.com/lecs/www-data/pdf/ABA0000/ABA0000CE135.pdf; ComponentLink2Description: Digi-Key listing; ComponentLink2URL: http://digikey.com/product-detail/en/EEE-FTC331XAP/P15095TR-ND/2796905; Tolerance: 20%; Voltage: 16V; Price: 0.3597; Device Package: Radial, Can - SMD; Impedance: -
footprint CAP ALUM 6.6MM
pins: 1, 2

## EEE-FTE221XAP
designator C?, comment 220uF
CAP ALUM 220UF 20% 25V SMD; Part Number: EEE-FTE221XAP; Manufacturer: Panasonic Electronic Components; TemperatureRange: -55C ~ 105C; Type: Automotive; Ripple Current: 390mA; Lifetime @ Temp: 2000 Hrs @ 105C; Value: 220uF; PartId: 7275; Supplier 1: Digi-Key; Supplier Part Number 1: PCE5009TR-ND; ComponentLink1Description: Datasheet; ComponentLink1URL: http://industrial.panasonic.com/lecs/www-data/pdf/ABA0000/ABA0000CE135.pdf; ComponentLink2Description: Digi-Key listing; ComponentLink2URL: http://digikey.com/product-detail/en/EEE-FTE221XAP/PCE5009TR-ND/2652040; Tolerance: 20%; Voltage: 25V; Price: 0.3668; Device Package: Radial, Can - SMD; Impedance: -
footprint CAP ALUM 6.6MM
pins: 1, 2

## EEE-FTV151XAP
designator C?, comment 150uF
CAP ALUM 150UF 20% 35V SMD; Part Number: EEE-FTV151XAP; Manufacturer: Panasonic Electronic Components; TemperatureRange: -55C ~ 105C; Type: Automotive; Ripple Current: 390mA; Lifetime @ Temp: 2000 Hrs @ 105C; Value: 150uF; PartId: 7271; Supplier 1: Digi-Key; Supplier Part Number 1: PCE5017TR-ND; ComponentLink1Description: Datasheet; ComponentLink1URL: http://industrial.panasonic.com/lecs/www-data/pdf/ABA0000/ABA0000CE135.pdf; ComponentLink2Description: Digi-Key listing; ComponentLink2URL: http://digikey.com/product-detail/en/EEE-FTV151XAP/PCE5017TR-ND/2652048; Tolerance: 20%; Voltage: 35V; Price: 0.3597; Device Package: Radial, Can - SMD; Impedance: -
footprint CAP ALUM 6.6MM
pins: 1, 2

## EEE-HA1A101P
designator C?, comment 100uF
CAP ALUM 100UF 20% 10V SMD; Part Number: EEE-HA1A101P; Manufacturer: Panasonic Electronic Components; TemperatureRange: -40C ~ 105C; Type: Automotive; Ripple Current: 110mA; Lifetime @ Temp: 1000 Hrs @ 105C; Value: 100uF; PartId: 7322; Supplier 1: Digi-Key; Supplier Part Number 1: PCE4168TR-ND; ComponentLink1Description: Datasheet; ComponentLink1URL: http://industrial.panasonic.com/lecs/www-data/pdf/ABA0000/ABA0000CE3.pdf; ComponentLink2Description: Digi-Key listing; ComponentLink2URL: http://digikey.com/product-detail/en/EEE-HA1A101P/PCE4168TR-ND/814140; Tolerance: 20%; Voltage: 10V; Price: 0.2012; Device Package: Radial, Can - SMD; Impedance: -
footprint CAP ALUM 8.3MM
pins: 1, 2

## EEE-HA1A221XP
designator C?, comment 220uF
CAP ALUM 220UF 20% 10V SMD; Part Number: EEE-HA1A221XP; Manufacturer: Panasonic Electronic Components; TemperatureRange: -40C ~ 105C; Type: Automotive; Ripple Current: 105mA; Lifetime @ Temp: 1000 Hrs @ 105C; Value: 220uF; PartId: 7257; Supplier 1: Digi-Key; Supplier Part Number 1: PCE4173TR-ND; ComponentLink1Description: Datasheet; ComponentLink1URL: http://industrial.panasonic.com/lecs/www-data/pdf/ABA0000/ABA0000CE3.pdf; ComponentLink2Description: Digi-Key listing; ComponentLink2URL: http://digikey.com/product-detail/en/EEE-HA1A221XP/PCE4173TR-ND/814145; Tolerance: 20%; Voltage: 10V; Price: 0.1971; Device Package: Radial, Can - SMD; Impedance: -
footprint CAP ALUM 6.6MM
pins: 1, 2